# Altium footprint library userlib.PCBLIB: 26 footprints (part 2 of 2)
Each footprint in its own frame and in the unit in brackets; x right, y up, seen from the top. Pads: shape width x height; smd on the part's side, far side on the other; paste and mask are expansions set on the pad; w line width, h text height; cw(c..) or ccw(c..) is an arc to the next point about the centre after c.
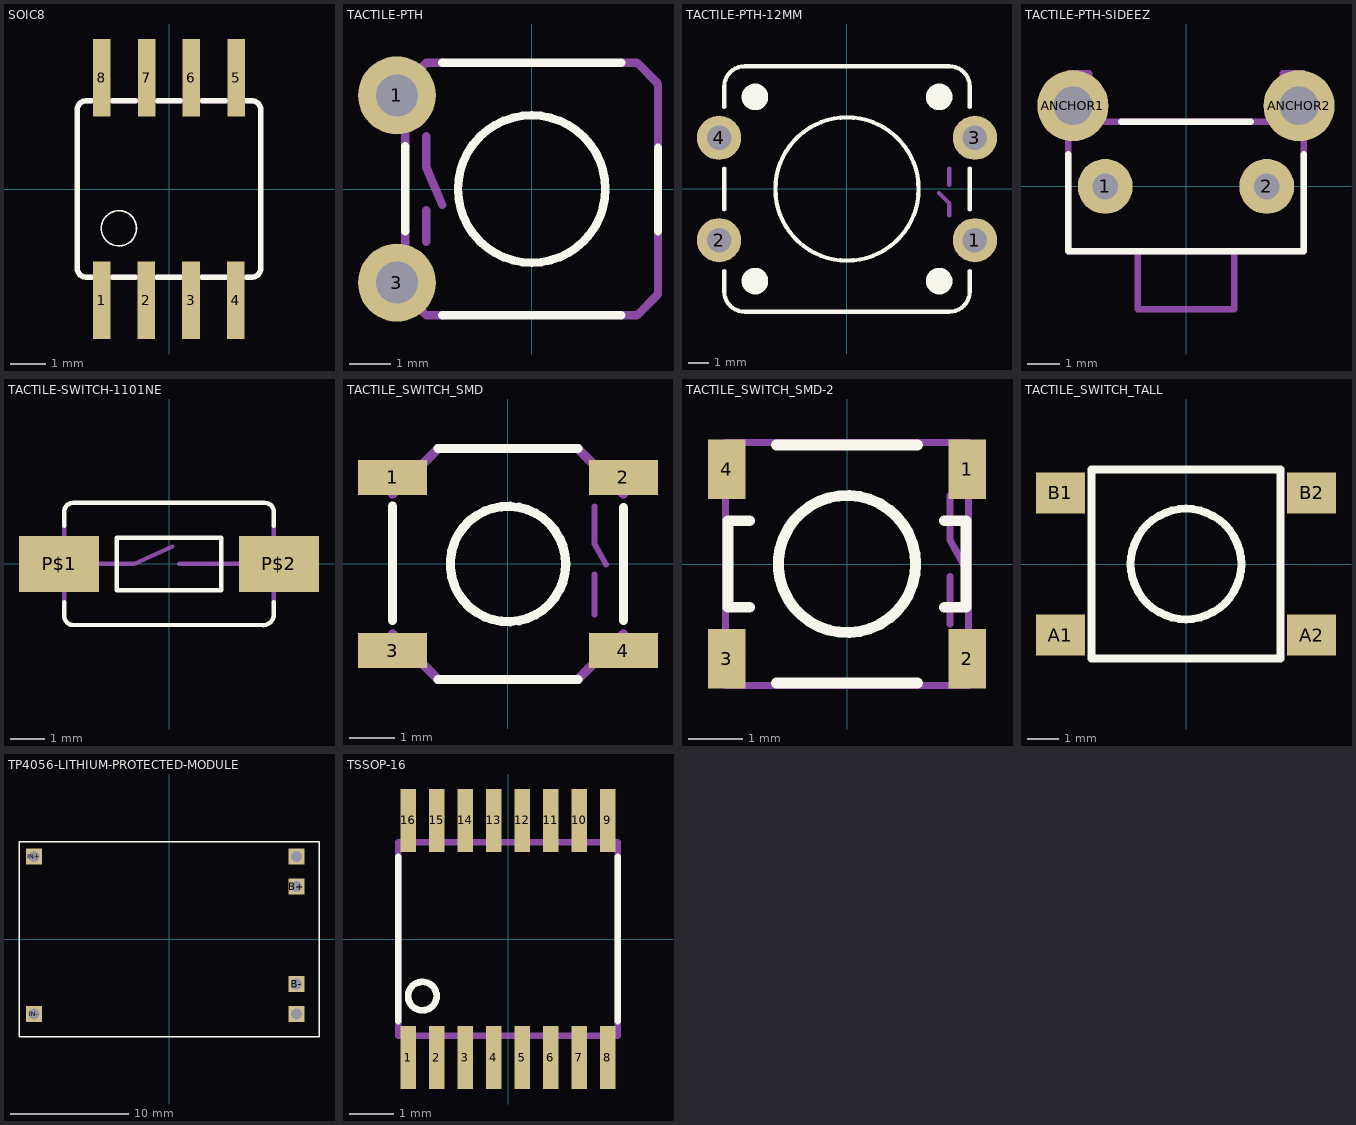
[diagram p1: the footprints below, top view; thin cyan lines are the x and y axes]

## SOIC8 [mil]
pads (8):
  rect 19.69x86.61 smd: 1(-75,-124.17) 2(-25.39,-124.17) 3(24.61,-124.17) 4(74.61,-124.17) 5(75,124.17) 6(25,124.17) 7(-25,124.17) 8(-75,124.17)
Top Overlay:
  circle w2: c-55.91,-43.9 r19.69
  lines w6: -102.36,-88.58 ccw(c-92.52,-88.58) -92.52,-98.43 ; -102.36,-88.19 -102.36,88.58 cw(c-92.52,88.58) -92.52,98.43 ; -92.13,-98.43 -87.01,-98.43 ; -92.13,98.43 -87.01,98.43 ; -62.6,-98.43 -37.4,-98.43 ; -62.6,98.43 -37.4,98.43 ; -12.99,-98.43 12.6,-98.43 ; -12.6,98.43 12.6,98.43 ; 37.01,-98.43 62.6,-98.43 ; 37.4,98.43 62.6,98.43 ; 86.61,-98.43 91.73,-98.43 ; 87.01,98.43 92.91,98.43 ; 92.52,-98.43 ccw(c92.52,-88.58) 102.36,-88.58 102.36,88.58 ccw(c92.52,88.58) 92.52,98.43
Mechanical 16:
  rectangle: -81.89,98.43 -68.11,133.86
  rectangle: -31.89,98.43 -18.11,133.86
  rectangle: 18.11,98.43 31.89,133.86
  rectangle: 68.11,98.43 81.89,133.86
  rectangle: 67.72,-133.86 81.5,-98.43
  rectangle: 17.72,-133.86 31.5,-98.43
  rectangle: -32.28,-133.86 -18.5,-98.43
  rectangle: -81.89,-133.86 -68.11,-98.43
  lines w6: -92.13,-98.43 92.91,-98.43 ; -92.13,98.43 92.91,98.43

## TACTILE-PTH [mil]
pads (2):
  round 74 hole 40: 1(-128,89) 3(-128,-89)
Top Overlay:
  circle w8: c0,0 r70
  lines w8: -120,-40 -120,40.47 ; -85,-120 85,-120 ; -85,120 85,120 ; 120,-40 120,39.29
Mechanical 16:
  lines w8: -120,-40 -120,-100 -100,-120 -85,-120 ; -120,40 -120,100 -100,120 -85,120 ; -100,-50 -100,-20 ; -100,50 -100,20 -85,-15 ; 85,-120 100,-120 120,-100 120,-40 ; 85,120 100,120 120,100 120,40

## TACTILE-PTH-12MM [mil]
pads (4):
  round 85 hole 47.24: 1(246.06,-98.43) 2(-246.06,-98.43) 3(246.06,98.43) 4(-246.06,98.43)
Top Overlay:
  circle w8: c0,0 r137.8
  circle w27.56: c-177.17,177.17 r11.81
  circle w27.56: c177.17,177.17 r11.81
  circle w27.56: c177.17,-177.17 r11.81
  circle w27.56: c-177.17,-177.17 r11.81
  lines w8: -236.22,-157.48 -236.22,-196.85 ccw(c-196.85,-196.85) -196.85,-236.22 196.85,-236.22 ccw(c196.85,-196.85) 236.22,-196.85 236.22,-157.48 ; -236.22,-39.37 -236.22,39.37 ; -236.22,157.48 -236.22,196.85 cw(c-196.85,196.85) -196.85,236.22 196.85,236.22 cw(c196.85,196.85) 236.22,196.85 236.22,157.48 ; 236.22,-39.37 236.22,39.37
Mechanical 16:
  lines w8: 177.17,-7.87 196.85,-27.56 196.85,-51.18 ; 196.85,7.87 196.85,39.37

## TACTILE-PTH-SIDEEZ [mil]
pads (4):
  round 66.93 hole 31.5: 1(-98.43,0) 2(98.43,0)
  round 86.61 hole 47.24: ANCHOR1(-137.8,98.43) ANCHOR2(137.8,98.43)
Top Overlay:
  lines w8: -143.7,39.37 -143.7,-78.74 143.7,-78.74 143.7,39.37 ; -78.74,78.74 78.74,78.74
Top Solder:
  circle w0: c98.43,0 r17.5
  circle w0: c-98.43,0 r17.5
  circle w0: c-137.8,98.43 r25
  circle w0: c137.8,98.43 r25
Bottom Solder:
  circle w0: c-137.8,98.43 r45
  circle w0: c98.43,0 r35
  circle w0: c-98.43,0 r35
  circle w0: c137.8,98.43 r45
Mechanical 16:
  lines w8: -59.06,-78.74 -143.7,-78.74 -143.7,137.8 -118.11,137.8 -118.11,78.74 118.11,78.74 118.11,137.8 143.7,137.8 143.7,-78.74 59.06,-78.74 ; -59.06,-78.74 59.06,-78.74 ; -59.06,-78.74 -59.06,-149.61 59.06,-149.61 59.06,-78.74

## TACTILE-SWITCH-1101NE [mil]
pads (2):
  rect 90.55x62.99 smd: P$1(-124.02,0) P$2(124.02,0)
Top Overlay:
  lines w5: -118.11,-43.31 -118.11,-59.06 ccw(c-108.27,-59.06) -108.27,-68.9 104.33,-68.9 ccw(c106.3,-57.09) 118.11,-59.06 118.11,-43.31 ; -118.11,43.31 -118.11,59.06 cw(c-108.27,59.06) -108.27,68.9 108.27,68.9 cw(c108.27,59.06) 118.11,59.06 118.11,43.31 ; -59.06,-29.53 59.06,-29.53 59.06,29.53 -59.06,29.53 -59.06,-29.53
Mechanical 16:
  lines w5: -118.11,-43.31 -118.11,43.31 ; -78.74,0 -39.37,0 3.94,19.69 ; 11.81,0 78.74,0 ; 118.11,-43.31 118.11,43.31

## TACTILE_SWITCH_SMD [mil]
pads (4):
  rect 60x30 smd: 1(-100,75) 2(100,75) 3(-100,-75) 4(100,-75)
Top Overlay:
  circle w8: c0,0 r50
  lines w8: -100,-48.82 -100,50 ; -60.63,-100 60.63,-100 ; -60.63,100 60.63,100 ; 100,-48.82 100,48.82
Mechanical 16:
  lines w5: 75,-43.9 75,-9.06 ; 75,50 75,17.52 85.04,-0.39
  lines w8: -100,-60.63 -60.63,-100 ; -100,60.63 -60.63,100 ; 60.63,-100 100,-60.63 ; 60.63,100 100,60.63

## TACTILE_SWITCH_SMD-2 [mil]
pads (4):
  rect 27.56x43.31 smd: 1(87.6,68.9) 2(87.6,-68.9) 3(-87.6,-68.9) 4(-87.6,68.9)
Top Overlay:
  circle w8: c0,0 r50
  lines w8: -70.87,-31.5 -86.61,-31.5 -86.61,31.5 -70.87,31.5 ; -51.18,-86.61 51.18,-86.61 ; -51.18,86.61 51.18,86.61 ; 70.87,-31.5 86.61,-31.5 86.61,31.5 70.87,31.5
Mechanical 16:
  lines w5: 75,-43.9 75,-9.06 ; 75,50 75,17.52 85.04,-0.39 ; -88.58,-88.58 88.58,-88.58 88.58,88.58 -88.58,88.58 -88.58,-88.58

## TACTILE_SWITCH_TALL [mil]
pads (4):
  rect 61.02x51.18 smd: A1(-156.5,-88.58) A2(156.5,-88.58) B1(-156.5,88.58) B2(156.5,88.58)
Top Overlay:
  circle w10: c0,0 r68.9
  lines w10: -118.11,-118.11 118.11,-118.11 118.11,118.11 -118.11,118.11 -118.11,-118.11

## TP4056-LITHIUM-PROTECTED-MODULE [mil]
pads (6):
  rect 53.15x53.15 hole 35.43: B+(425,175) B-(425,-150) IN+(-450,275) IN-(-450,-250) OUT+(425,275) OUT-(425,-250)
Top Overlay:
  lines w5: -500,-325 500,-325 500,325 -500,325 -500,-325

## TSSOP-16 [mm]
pads (16):
  rect 0.35x1.43 smd: 1(-2.275,-2.7) 2(-1.625,-2.7) 3(-0.975,-2.7) 4(-0.325,-2.7) 5(0.325,-2.7) 6(0.975,-2.7) 7(1.625,-2.7) 8(2.275,-2.7) 9(2.275,2.7) 10(1.625,2.7) 11(0.975,2.7) 12(0.325,2.7) 13(-0.325,2.7) 14(-0.975,2.7) 15(-1.625,2.7) 16(-2.275,2.7)
Top Overlay:
  circle w0.152: c-1.95,-1.3 r0.325
  lines w0.152: -2.5,-1.875 -2.5,1.875 ; 2.5,-1.875 2.5,1.875
Mechanical 16:
  rectangle: -2.4,-3.2 -2.155,-2.2
  rectangle: -1.75,-3.2 -1.505,-2.2
  rectangle: -1.1,-3.2 -0.855,-2.2
  rectangle: -0.45,-3.2 -0.205,-2.2
  rectangle: 0.2,-3.2 0.445,-2.2
  rectangle: 0.85,-3.2 1.095,-2.2
  rectangle: 1.5,-3.2 1.745,-2.2
  rectangle: 2.15,-3.2 2.395,-2.2
  region: 2.4,3.2 2.155,3.2 2.155,2.2 2.4,2.2
  region: 1.75,3.2 1.505,3.2 1.505,2.2 1.75,2.2
  region: 1.1,3.2 0.855,3.2 0.855,2.2 1.1,2.2
  region: 0.45,3.2 0.205,3.2 0.205,2.2 0.45,2.2
  region: -0.2,3.2 -0.445,3.2 -0.445,2.2 -0.2,2.2
  region: -0.85,3.2 -1.095,3.2 -1.095,2.2 -0.85,2.2
  region: -1.5,3.2 -1.745,3.2 -1.745,2.2 -1.5,2.2
  region: -2.15,3.2 -2.395,3.2 -2.395,2.2 -2.15,2.2
  lines w0.152: -2.5,-2.2 2.5,-2.2 2.5,2.2 -2.5,2.2 -2.5,-2.2